# Altium schematic symbol library IS-IG-2.SchLib: 1 symbol
Pins are listed as number, name and electrical type; pins without a type are passive.

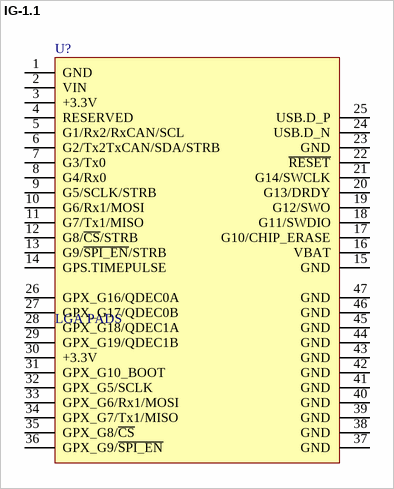
[diagram p0: symbol IG-1.1]

## IG-1.1
designator U?, comment LGA PADS
IMX multi-frequency RTK-GNSS Module
footprint IG-2_LGA (IMX multi-frequency RTK-GNSS Module)
pins: 1 GND, 2 VIN, 3 +3.3V, 4 RESERVED, 5 G1/Rx2/RxCAN/SCL, 6 G2/Tx2TxCAN/SDA/STRB, 7 G3/Tx0, 8 G4/Rx0, 9 G5/SCLK/STRB, 10 G6/Rx1/MOSI, 11 G7/Tx1/MISO, 12 G8/~{CS}/STRB, 13 G9/~{SPI_EN}/STRB, 14 GPS.TIMEPULSE, 15 GND, 16 VBAT, 17 G10/CHIP_ERASE, 18 G11/SWDIO, 19 G12/SWO, 20 G13/DRDY, 21 G14/SWCLK, 22 ~{RESET}, 23 GND, 24 USB.D_N, 25 USB.D_P, 26 GPX_G16/QDEC0A, 27 GPX_G17/QDEC0B, 28 GPX_G18/QDEC1A, 29 GPX_G19/QDEC1B, 30 +3.3V, 31 GPX_G10_BOOT, 32 GPX_G5/SCLK, 33 GPX_G6/Rx1/MOSI, 34 GPX_G7/Tx1/MISO, 35 GPX_G8/~{CS}, 36 GPX_G9/~{SPI_EN}, 37 GND, 38 GND, 39 GND, 40 GND, 41 GND, 42 GND, 43 GND, 44 GND, 45 GND, 46 GND, 47 GND